# Altium schematic symbol library DFmini_player.SchLib: 1 symbol
Pins are listed as number, name and electrical type; pins without a type are passive.

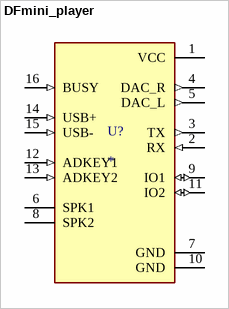
[diagram p0: symbol DFmini_player]

## DFmini_player
designator U?
Dfplayer - a Mini Mp3 Player; MP: DFR0299; Package: None; Value: *; Price: None; Availability: Unavailable
footprint DFmini_player
pins: 1 VCC (power), 2 RX (in), 3 TX (out), 4 DAC_R (out), 5 DAC_L (out), 6 SPK1, 7 GND (power), 8 SPK2, 9 IO1 (io), 10 GND (power), 11 IO2 (io), 12 ADKEY1 (in), 13 ADKEY2 (in), 14 USB+ (in), 15 USB- (in), 16 BUSY (in)